# Altium footprint library FPC_8P_0.5mm.PcbLib: 1 footprints
Each footprint in its own frame and in the unit in brackets; x right, y up, seen from the top. Pads: shape width x height; smd on the part's side, far side on the other; paste and mask are expansions set on the pad; w line width, h text height; cw(c..) or ccw(c..) is an arc to the next point about the centre after c.
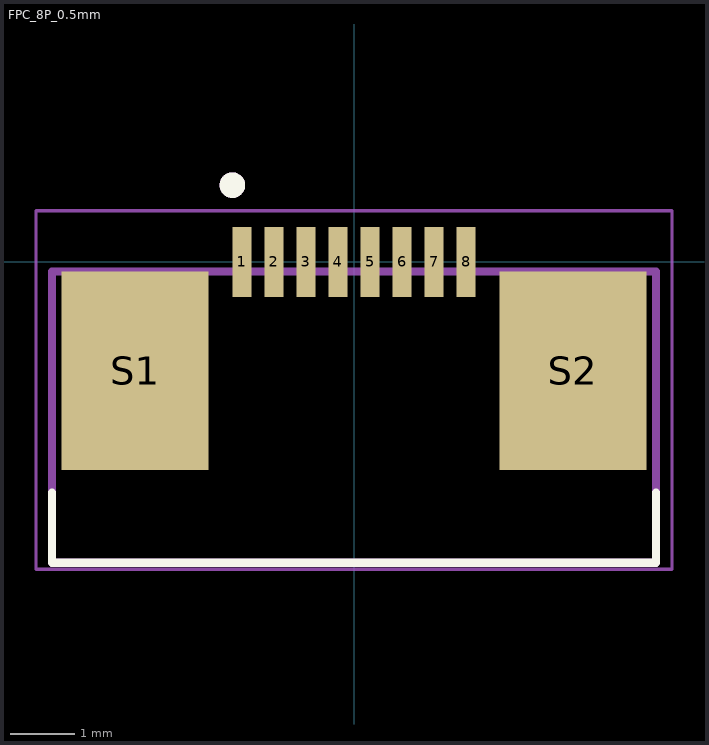
[diagram p0: the footprint, top view; thin cyan lines are the x and y axes]

## FPC_8P_0.5mm [mm]
pads (10):
  rect 0.3x1.1 smd: 1(-1.75,0) 2(-1.25,0) 3(-0.75,0) 4(-0.25,0) 5(0.25,0) 6(0.75,0) 7(1.25,0) 8(1.75,0)
  rect 2.3x3.1 smd: S1(-3.42,-1.7) S2(3.42,-1.7)
Top Overlay:
  circle w0.2: c-1.9,1.2 r0.1
  lines w0.127: -4.715,-3.6 -4.715,-4.699 4.715,-4.699 4.715,-3.6
Mechanical 13:
  circle w0.2: c-1.9,1.2 r0.1
  lines w0.127: -4.715,-4.699 -4.715,-0.15 4.715,-0.15 4.715,-4.699 -4.715,-4.699
Mechanical 15:
  lines w0.05: -4.965,-4.8 -4.965,0.8 4.965,0.8 4.965,-4.8 -4.965,-4.8
3D body "1734592-8.stp": height 2, standoff -0.05, extent -4.715,-4.729 4.715,0.381